# Altium footprint library Oscillator.PcbLib: 1 footprints
Each footprint in its own frame and in the unit in brackets; x right, y up, seen from the top. Pads: shape width x height; smd on the part's side, far side on the other; paste and mask are expansions set on the pad; w line width, h text height; cw(c..) or ccw(c..) is an arc to the next point about the centre after c.
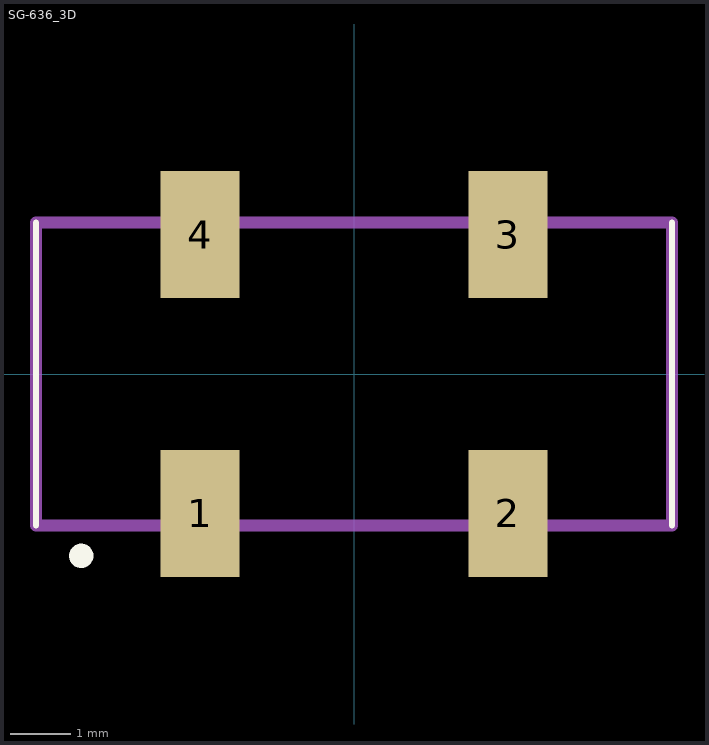
[diagram p0: the footprint, top view; thin cyan lines are the x and y axes]

## SG-636_3D [mm]
pads (4):
  rect 1.3x2.1 smd: 1(-2.54,-2.3) 2(2.54,-2.3) 3(2.54,2.3) 4(-2.54,2.3)
L26-Silk Screen Top (Multiple PADS layers...):
  circle w0.2: c-4.5,-3 r0.1
  lines w0.1: -5.25,-2.5 -5.25,2.5 ; 5.25,-2.5 5.25,2.5
L15 (Multiple PADS layers...):
  lines w0.2: -5.25,-2.5 5.25,-2.5 5.25,2.5 -5.25,2.5 -5.25,-2.5
3D body "SG-636PCE_8.0000MC0_ROHS.stp": height 2.8, standoff 0, extent -5.25,-3.22 5.25,3.22